# Altium schematic symbol library Util.SchLib: 2 symbols
Pins are listed as number, name and electrical type; pins without a type are passive.

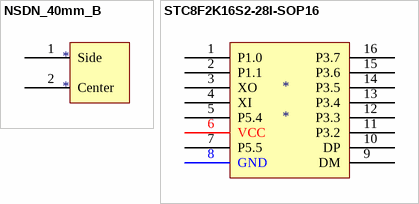
[diagram p0: symbols NSDN_40mm_B to STC8F2K16S2-28I-SOP16]

## NSDN_40mm_B
designator *
footprint NSDN_40mm_B
pins: 1 Side, 2 Center

## STC8F2K16S2-28I-SOP16
designator *
footprint SOP16
pins: 1 P1.0, 2 P1.1, 3 XO, 4 XI, 5 P5.4, 6 VCC, 7 P5.5, 8 GND, 9 DM, 10 DP, 11 P3.2, 12 P3.3, 13 P3.4, 14 P3.5, 15 P3.6, 16 P3.7